# Altium schematic symbol library Transistors.SchLib: 24 symbols
Pins are listed as number, name and electrical type; pins without a type are passive.

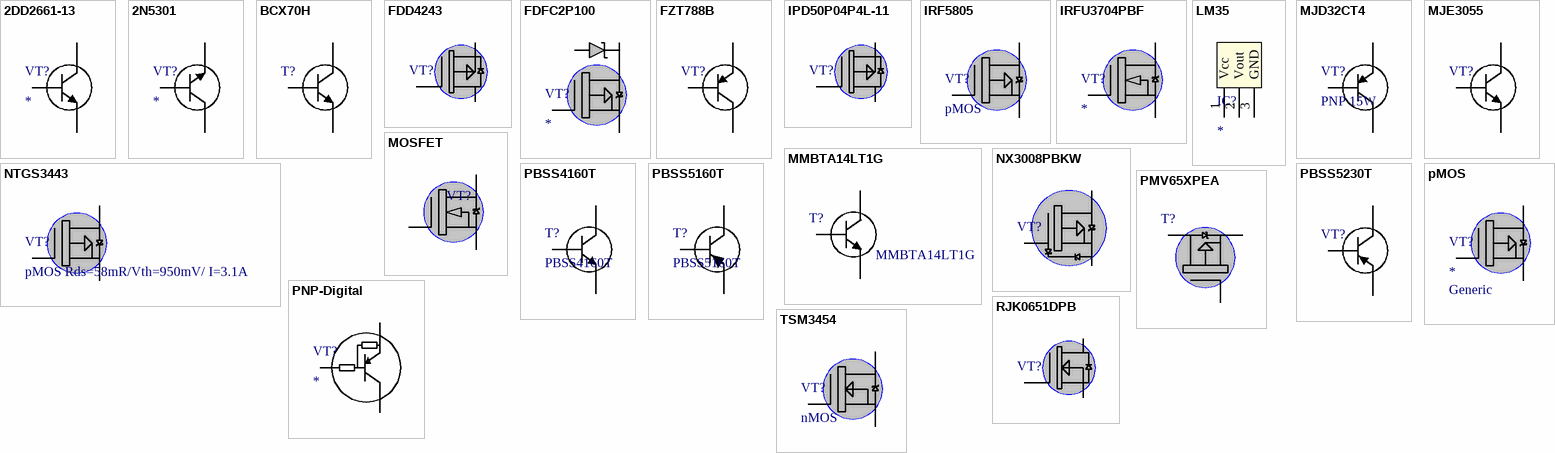
[diagram p0: symbols 2DD2661-13 to TSM3454]

## 2DD2661-13
designator VT?
ComponentLink1Description: Datasheet; ComponentLink1URL: http://www.diodes.com/datasheets/ds31635.pdf; Lötbarkeit RoHS: YES; Material RoHS: YES
footprint SOT89-150P355X160-3N (SOT89, 3-Leads, Body 4,50x2,50mm, Pitch 1,50mm, Lead Span 3,5mm, IPC Medium Density)
pins: B, C, E

## 2N5301
designator VT?
ComponentLink1Description: Datasheet; ComponentLink1URL: http://www.farnell.com/datasheets/1702578.pdf; Lötbarkeit RoHS: YES; Material RoHS: YES
footprint TO-3
pins: 1 E, 2 B, 3 C

## BCX70H
designator T?, comment NPN,100mA  (value not drawn)
Name: BCX70H; Manufacturer Part Num: BCX70H; ComponentLink1Description: Datasheet; Lötbarkeit RoHS: YES; Material RoHS: YES; Ordercode: BCX70H
footprint SOT-23 (SOT23, 3-Leads, Body 2,90x2,30mm, Pitch 0,95mm, IPC Medium Density)
pins: 1, 2, 3

## FDD4243
designator VT?  (value not drawn)
pMOS/14A/40V; Manufacturer: FAIRCHILD; Name: FDD4243; ComponentLink1Description: Datasheet; ComponentLink1URL: https://www.fairchildsemi.com/datasheets/FD/FDD4243.pdf; Lötbarkeit RoHS: YES; Material RoHS: YES; Ordercode: FDD4243; Part Specification: pMOS/14A/40V; Temperature Range: –55°C to +150°C
footprint DPAK 369C (D-PAK, 3-Pads, Body 6,21x6,73mm (max), IPC Medium Density)
pins: 1 G, 2 D, 3 S

## FDFC2P100
designator VT?
Name: FDFC2P100; ComponentLink1Description: Datasheet; Lötbarkeit RoHS: YES; Material RoHS: YES
footprint SSOT-6 (SOT23, 6-Leads, Body 2,92x2,93mm, Pitch 0,95mm, IPC Medium Density)
pins: 1, 2, 3, 4

## FZT788B
designator VT?, comment PNP 15V/3A/2W/100MHZ  (value not drawn)
Manufacturer Part Num: FZT788B; ComponentLink1Description: Datasheet; Lötbarkeit RoHS: YES; Material RoHS: YES; Ordercode: FZT788B
footprint SOT-223 (SOT223, 4-Leads, Body 6,50x7,00mm (avg), Pitch 2,30mm, IPC Medium Density)
pins: 1 B, 2 C, 3 E

## IPD50P04P4L-11
designator VT?  (value not drawn)
pMOS/50A/40V; Manufacturer: INFINEON; Name: IPD50P04P4L-11; ComponentLink1Description: Datasheet; ComponentLink1URL: http://www.farnell.com/datasheets/1942428.pdf; Lötbarkeit RoHS: YES; Material RoHS: YES; Ordercode: IPD50P04P4L-11; Part Specification: pMOS/50A/40V; Temperature Range: –55°C to +175°C
footprint DPAK 369C (D-PAK, 3-Pads, Body 6,21x6,73mm (max), IPC Medium Density)
pins: 1 G, 2 D, 3 S

## IRF5805
designator VT?, comment pMOS
Name: IRF5805; ComponentLink1Description: Datasheet; Lötbarkeit RoHS: YES; Material RoHS: YES
footprint TSOP6
pins: D, G, S

## IRFU3704PBF
designator VT?
ComponentLink1Description: Datasheet; ComponentLink1URL: http://www.irf.com/product-info/datasheets/data/irfr3704.pdf; Lötbarkeit RoHS: YES; Material RoHS: YES
footprint TO-251AA
pins: 1 G, 2 D, 3 S

## LM35
designator IC?
ComponentLink1Description: Datasheet; Lötbarkeit RoHS: YES; Material RoHS: YES
footprint TO-92
pins: 1 Vcc, 2 Vout, 3 GND

## MJD32CT4
designator VT?, comment PNP 15W
Name: MJD32CT4; ComponentLink1Description: Datasheet; Lötbarkeit RoHS: YES; Material RoHS: YES
footprint TO-252 (D-PAK, 3-Pads, Body 6,40x6,56mm (max), IPC Medium Density)
pins: 1 B, 2 C, 3 E

## MJE3055
designator VT?  (value not drawn)
ComponentLink1Description: Datasheet; Lötbarkeit RoHS: YES; Material RoHS: YES
footprint TO-220
footprint TO-220 TH
pins: B, C, E

## MMBTA14LT1G
designator T?
NPN, 300mA, Darlington; Manufacturer: ONSemi; Part Specification: NPN, 300mA, 30V; ComponentLink1URL: http://www.farnell.com/datasheets/1708290.pdf?_ga=1.177120165.1686358830.1472064101; Lötbarkeit RoHS: YES; Material RoHS: YES; Temperature Range: -55°C to 150°C; ComponentLink1Description: Datasheet; Ordercode: MMBTA14LT1G
footprint SOT-23 (SOT23, 3-Leads, Body 2,90x2,30mm, Pitch 0,95mm, IPC Medium Density)
pins: 1, 2, 3

## MOSFET
designator VT?  (value not drawn)
ComponentLink1Description: Datasheet; Lötbarkeit RoHS: YES; Material RoHS: YES
footprint TO-263 (D2-PAK, 3-Pads, Body 8,20x8,26mm (max), IPC Medium Density)
footprint SO8
pins: D, G, S

## NTGS3443
designator VT?, comment pMOS Rds=58mR/Vth=950mV/ I=3.1A
Manufacturer Part Num: NTGS3443T1G; Name: NTGS3443; ComponentLink1Description: Datasheet; Lötbarkeit RoHS: YES; Material RoHS: YES; Ordercode: NTGS3443T1G
footprint TSOP6
pins: D, G, S

## NX3008PBKW
designator VT?, comment pMOS,200mA,0.9V  (value not drawn)
Name: NX3008PBKW; Manufacturer Part Num: NX3008PBKW; ComponentLink1Description: Datasheet; Lötbarkeit RoHS: YES; Material RoHS: YES; Ordercode: NX3008PBKW
footprint SOT-323 (SOT23, 3-Leads, Body 2,00x2,10mm, Pitch 0,65mm, IPC Medium Density)
pins: 1 G, 2 S, 3 D

## PBSS4160T
designator T?
NPN, 1A, 60V; Manufacturer: NXP; ComponentLink1Description: Datasheet; ComponentLink1URL: http://www.farnell.com/datasheets/715195.pdf?_ga=1.74487574.563432311.1467655787; Lötbarkeit RoHS: YES; Material RoHS: YES; Ordercode: PBSS4160T; Part Specification: NPN, 1A, 60V; Temperature Range: -65°C to 150°C
footprint SOT-23 (SOT23, 3-Leads, Body 2,90x2,30mm, Pitch 0,95mm, IPC Medium Density)
pins: 1 B, 2 E, 3 C

## PBSS5160T
designator T?
PNP, 1A, 60V; Manufacturer: NXP; ComponentLink1Description: Datasheet; ComponentLink1URL: http://www.farnell.com/datasheets/714135.pdf?_ga=1.183343650.563432311.1467655787; Lötbarkeit RoHS: YES; Material RoHS: YES; Ordercode: PBSS5160T; Part Specification: PNP, 1A, 60V; Temperature Range: -65°C to 150°C
footprint SOT-23 (SOT23, 3-Leads, Body 2,90x2,30mm, Pitch 0,95mm, IPC Medium Density)
pins: 1 B, 2 E, 3 C

## PBSS5230T
designator VT?  (value not drawn)
Name: PBSS5230T; ComponentLink1Description: Datasheet; Lötbarkeit RoHS: YES; Material RoHS: YES
footprint SOT23 (SOT23, 3-Leads, Body 3,0x2,5mm (max), Pitch 0,95mm, IPC Low Density)
pins: 1, 2, 3

## pMOS
designator VT?  Name: Generic
ComponentLink1Description: Datasheet; Lötbarkeit RoHS: YES; Material RoHS: YES
footprint SO8
footprint SOT-23 (SOT23, 3-Leads, Body 1,60x1,60mm, Pitch 0,50mm, IPC Medium Density)
footprint TSOP6
pins: D, G, S

## PMV65XPEA
designator T?  (value not drawn)
Name: PMV65XPEA; ComponentLink1Description: Datasheet; Lötbarkeit RoHS: YES; Material RoHS: YES
footprint SOT23 (SOT23, 3-Leads, Body 3,0x2,5mm (max), Pitch 0,95mm, IPC Low Density)
pins: 1 G, 2 D, 3 S

## PNP-Digital
designator VT?
Name: *; ComponentLink1Description: Datasheet; Lötbarkeit RoHS: YES; Material RoHS: YES
footprint SOT23 (SOT23, 3-Leads, Body 3,0x2,5mm (max), Pitch 0,95mm, IPC Low Density)
pins: 1 B, 2 C, 3 E

## RJK0651DPB
designator VT?  (value not drawn)
nMOS/25A/60V; Manufacturer: Renesas; Name: RJK0651DPB; ComponentLink1Description: Datasheet; ComponentLink1URL: https://www.renesas.com/en-eu/doc/products/transistor/001/r07ds0076ej0200_rjk0651dpb.pdf; Lötbarkeit RoHS: YES; Material RoHS: YES; Ordercode: RJK0651DPB; Part Specification: nMOS/25A/60V; Temperature Range: –55°C to +150°C
footprint LFPACK (TO, 5-Pads, Body 5,75x5,81mm (max), IPC Medium Density)
pins: 1 S, 2 S, 3 S, 4 G, 5 D

## TSM3454
designator VT?, comment nMOS
Name: TSM3454; ComponentLink1Description: Datasheet; Lötbarkeit RoHS: YES; Material RoHS: YES
footprint TSOP6
pins: D, G, S